# Altium footprint library NG2094.PcbLib: 22 footprints (part 1 of 2)
Each footprint in its own frame and in the unit in brackets; x right, y up, seen from the top. Pads: shape width x height; smd on the part's side, far side on the other; paste and mask are expansions set on the pad; w line width, h text height; cw(c..) or ccw(c..) is an arc to the next point about the centre after c.
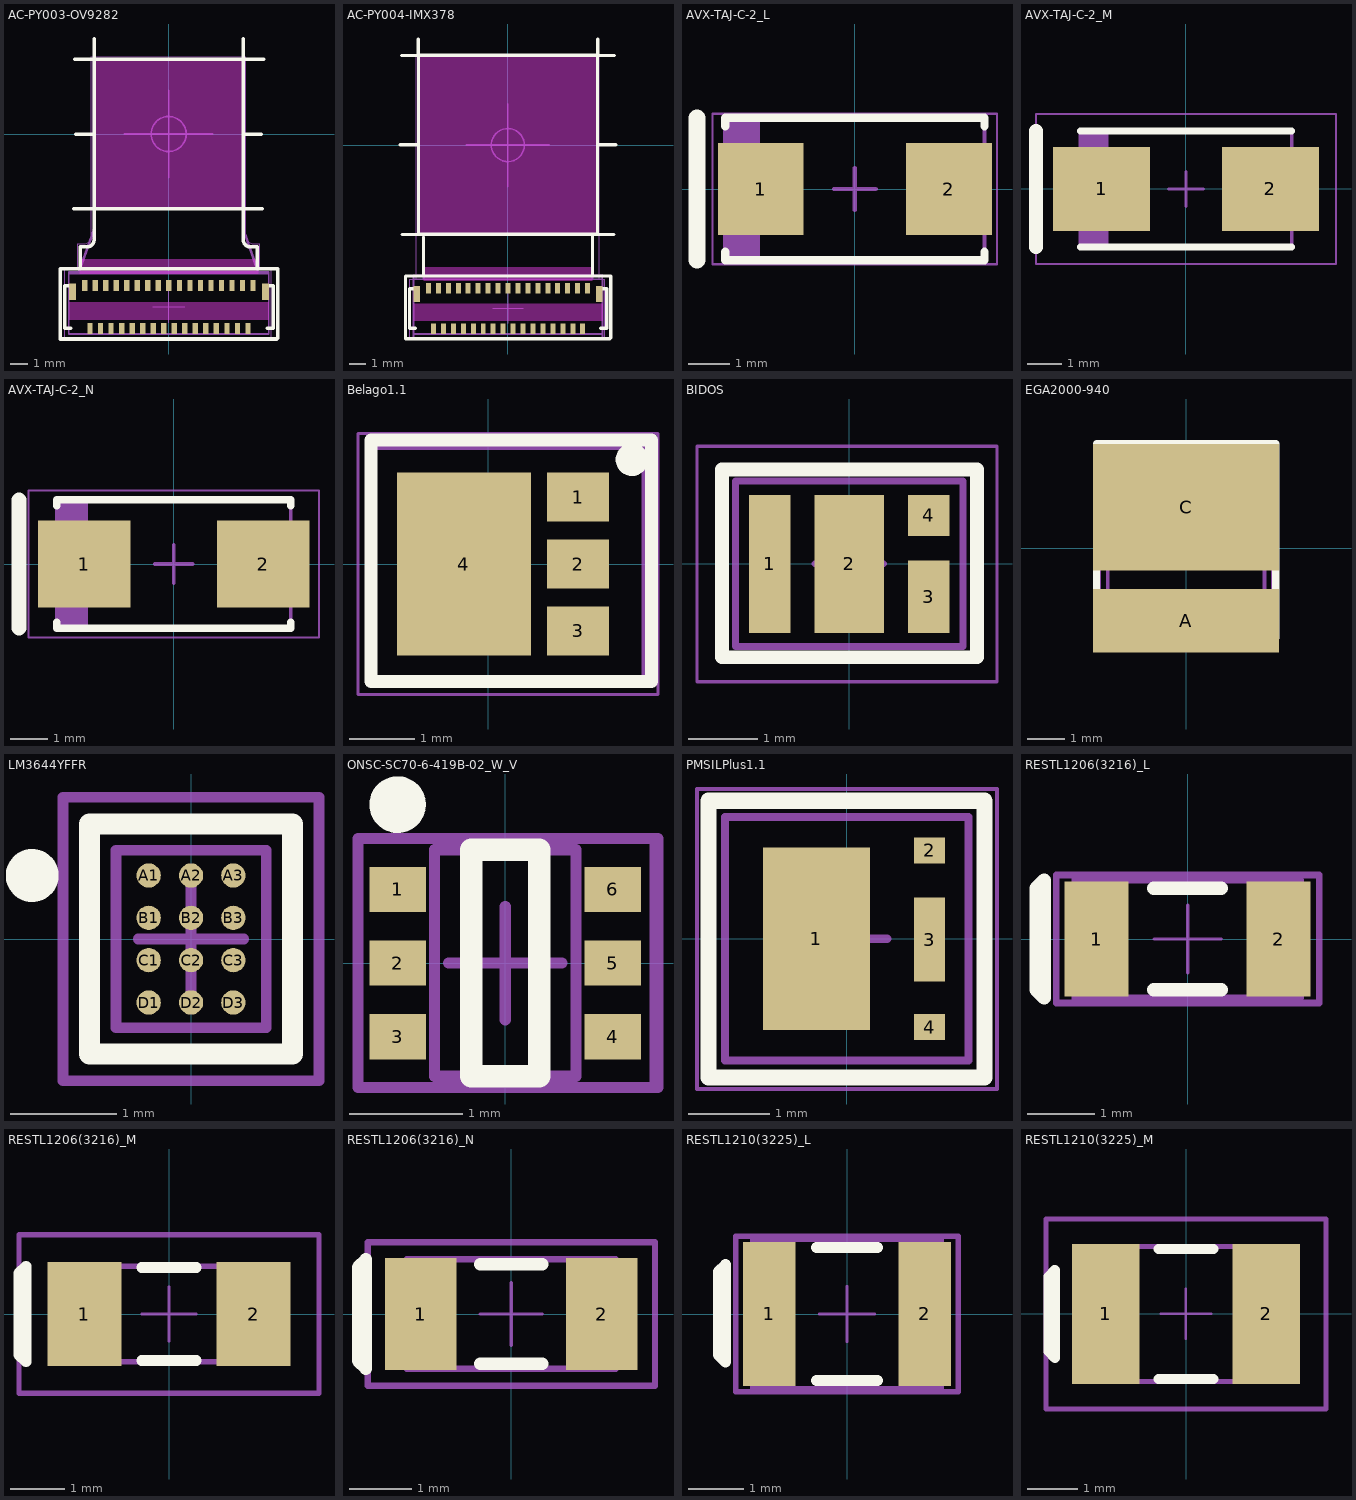
[diagram p0: the footprints below, top view; thin cyan lines are the x and y axes]

## AC-PY003-OV9282 [mm] "connector: FH26W-33S-0.3SHW"
pads (35):
  rect 0.4x0.95 smd mask+0.05: 0(-5.488,-8.984) 0(5.512,-8.984)
  rect 0.3x0.65 smd mask+0.05: 1(4.812,-8.634) 2(4.52,-11.084) 3(4.212,-8.634) 4(3.92,-11.084) 5(3.612,-8.634) 6(3.32,-11.084) 7(3.012,-8.634) 8(2.72,-11.084) 9(2.412,-8.634) 10(2.12,-11.084) 11(1.812,-8.634) 12(1.52,-11.084) 13(1.212,-8.634) 14(0.92,-11.084) 15(0.612,-8.634) 16(0.32,-11.084) 17(0.012,-8.634) 18(-0.28,-11.084) 19(-0.588,-8.634) 20(-0.88,-11.084) 21(-1.188,-8.634) 22(-1.48,-11.084) 23(-1.788,-8.634) 24(-2.08,-11.084) 25(-2.388,-8.634) 26(-2.68,-11.084) 27(-2.988,-8.634) 28(-3.28,-11.084) 29(-3.588,-8.634) 30(-3.88,-11.084) 31(-4.188,-8.634) 32(-4.48,-11.084) 33(-4.788,-8.634)
Top Layer keep-out:
  rectangle: -4.2,-4.2 4.3,4.2
  rectangle: -5.688,-10.602 5.73,-9.573
  rectangle: -5.088,-7.981 5.131,-7.138
Top Overlay:
  lines w0.2: -6.175,-7.684 -6.175,-11.684 6.162,-11.684 6.215,-11.632 6.215,-7.684 -6.148,-7.684 ; -5.575,-11.059 -5.925,-11.059 -5.925,-8.659 -5.575,-8.659 ; -5.412,-4.25 5.348,-4.25 ; -5.348,4.25 5.412,4.25 ; -5.288,0 -4.288,0 ; -5.043,-7.684 -5.043,-6.431 -4.669,-6.431 ccw(c-4.65,-6.031) -4.25,-6.05 -4.25,5.416 ; 4.252,5.416 4.252,-6.05 ccw(c4.652,-6.031) 4.671,-6.431 5.046,-6.431 5.046,-7.684 ; 4.288,0 5.288,0 ; 5.615,-11.059 5.965,-11.059 5.965,-8.659 5.615,-8.659
Top Assembly:
  circle w0.1: c0,0 r1
  lines w0.1: -2.51,0 2.51,0 ; 0,-2.5 0,2.5 ; -5.688,-11.397 5.7,-11.397 5.7,-7.859 2.762,-7.859 -2.738,-7.859 -5.688,-7.859 -5.688,-11.397
  lines w0.15: -5.112,-7.882 -4.25,-5.408 ; -4.248,-5.408 -4.248,-4.246 ; 4.248,-5.41 4.248,-4.248 ; 4.25,-5.41 5.112,-7.884 ; 4.252,4.25 -4.252,4.25 -4.252,-4.248 4.252,-4.248 4.252,4.252
  text "'.Designator'" at 0.012,-9.853 h1
Top Component Outline:
  lines w0.1: -5.112,-7.882 -4.25,-5.408 ; -4.252,-4.248 -4.252,4.25 4.252,4.25 ; -4.248,-5.408 -4.248,-4.246 ; 4.248,-5.41 4.248,-4.248 ; 4.25,-5.41 5.112,-7.884 ; 4.252,-4.248 4.252,4.252 ; -5.688,-11.397 -5.688,-7.947 5.712,-7.947 5.712,-11.397 -5.688,-11.397
Top Courtyard:
  lines w0.05: -5.193,-7.656 -5.193,-6.246 -4.819,-6.246 ccw(c-4.8,-5.847) -4.4,-5.866 -4.4,4.4 4.4,4.4 ; -0.91,0 0,0 ; -0.898,-9.853 0.012,-9.853 ; 0,-0.91 0,0 ; 0,0.91 0,0 ; 0.012,-10.763 0.012,-9.853 ; 0.012,-8.943 0.012,-9.853 ; 0.91,0 0,0 ; 0.922,-9.853 0.012,-9.853 ; 4.407,4.4 4.407,-5.866 ccw(c4.806,-5.847) 4.825,-6.246 5.2,-6.246 5.2,-7.656 ; -5.913,-11.584 5.854,-11.584 5.854,-7.684 -5.913,-7.684 -5.913,-11.584
3D body "arducam-PY003-OV9282_0705.stp": height 4.7, standoff -0.2, extent -5.1,-10.42 5.1,4.25
3D body "FH26-33S-0.step": height 1.01, standoff 0.01, extent -5.688,-11.434 5.712,-7.934
3D body: height 5.6, standoff 5.55, extent -5.1,-0.007 5.1,0.006
3D body: height 5.6, standoff 5.55, extent -0.006,-5.1 0.007,5.1

## AC-PY004-IMX378 [mm] "connector: FH26W-33S-0.3SHW"
pads (35):
  rect 0.4x0.95 smd mask+0.05: 0(-5.488,-8.984) 0(5.512,-8.984)
  rect 0.3x0.65 smd mask+0.05: 1(4.812,-8.634) 2(4.52,-11.084) 3(4.212,-8.634) 4(3.92,-11.084) 5(3.612,-8.634) 6(3.32,-11.084) 7(3.012,-8.634) 8(2.72,-11.084) 9(2.412,-8.634) 10(2.12,-11.084) 11(1.812,-8.634) 12(1.52,-11.084) 13(1.212,-8.634) 14(0.92,-11.084) 15(0.612,-8.634) 16(0.32,-11.084) 17(0.012,-8.634) 18(-0.28,-11.084) 19(-0.588,-8.634) 20(-0.88,-11.084) 21(-1.188,-8.634) 22(-1.48,-11.084) 23(-1.788,-8.634) 24(-2.08,-11.084) 25(-2.388,-8.634) 26(-2.68,-11.084) 27(-2.988,-8.634) 28(-3.28,-11.084) 29(-3.588,-8.634) 30(-3.88,-11.084) 31(-4.188,-8.634) 32(-4.48,-11.084) 33(-4.788,-8.634)
Top Layer keep-out:
  rectangle: -5.1,-8.2 5.119,-7.357
  rectangle: -5.688,-10.602 5.73,-9.573
  rectangle: -5.388,-5.436 5.412,5.4
Top Overlay:
  lines w0.2: -6.496,0.016 -5.496,0.016 ; -6.4,5.4 -5.4,5.4 -5.4,6.4 ; -6.372,-5.397 -5.372,-5.397 ; -5.575,-11.059 -5.925,-11.059 -5.925,-8.659 -5.575,-8.659 ; -5.088,-7.872 -5.088,-5.559 ; 5.112,-7.9 5.112,-5.384 ; 5.397,-5.397 6.397,-5.397 ; 5.424,6.4 5.424,5.4 6.424,5.4 ; 5.52,0.016 6.52,0.016 ; 5.615,-11.059 5.965,-11.059 5.965,-8.659 5.615,-8.659 ; -6.175,-11.684 -6.175,-7.9 6.215,-7.9 6.215,-11.632 6.162,-11.684 -6.175,-11.684 ; -5.388,-5.384 5.412,-5.384 5.412,5.416 -5.388,5.416 -5.388,-5.384
Top Assembly:
  circle w0.1: c0,0 r1
  lines w0.1: -5.387,5.374 -5.387,-5.41 5.397,-5.41 ; -5.347,5.373 5.437,5.373 5.437,-5.411 ; -5.094,-7.868 -5.087,-5.411 ; -2.51,0 2.51,0 ; 0,-2.5 0,2.5 ; 5.113,-7.911 5.113,-5.411 ; -5.688,-11.397 -5.688,-7.859 -2.738,-7.859 2.762,-7.859 5.7,-7.859 5.7,-11.397 -5.688,-11.397
  text "'.Designator'" at 0.012,-9.853 h1
Top Component Outline:
  lines w0.1: -5.388,5.401 -5.388,-5.383 5.397,-5.383 ; -5.348,5.4 5.436,5.4 5.436,-5.384 ; -5.088,-5.384 -5.086,-8.096 ; 5.11,-8.099 5.112,-5.384 ; -5.688,-11.7 5.712,-11.7 5.712,-8.1 -5.688,-8.1 -5.688,-11.7
Top Courtyard:
  lines w0.05: -5.532,-8.083 -5.532,5.4 5.532,5.4 5.532,-8.098 ; -0.91,0 0,0 ; -0.898,-9.853 0.012,-9.853 ; 0,-0.91 0,0 ; 0,0.91 0,0 ; 0.012,-10.763 0.012,-9.853 ; 0.012,-8.943 0.012,-9.853 ; 0.91,0 0,0 ; 0.922,-9.853 0.012,-9.853 ; -5.913,-11.584 -5.913,-8.1 5.854,-8.1 5.854,-11.584 -5.913,-11.584
3D body "20210802_Ard-pcpy004-imx378.stp": height 6.3, standoff 0.05, extent -5.4,-10.427 5.4,5.393
3D body: height 5.6, standoff 5.55, extent -0.006,-5.1 0.007,5.1
3D body: height 5.6, standoff 5.55, extent -5.1,-0.007 5.1,0.006
3D body "FH26-33S-0.step": height 1.01, standoff 0.01, extent -5.688,-11.434 5.712,-7.934

## AVX-TAJ-C-2_L [mm] "Molded Capacitor, 2-Leads, Body 6.2x3.4mm, IPC High Density"
height 2.8
pads (2):
  rect 2.05x2.2 smd: 1(-2.25,0) 2(2.25,0)
Top Overlay:
  lines w0.2: -3.1,-1.5 -3.1,-1.7 3.1,-1.7 3.1,-1.5 ; -3.1,1.5 -3.1,1.7 3.1,1.7 3.1,1.5
  lines w0.4: -3.775,-1.7 -3.775,1.7
Top Assembly:
  rectangle: -3.1,-1.7 -2.266,1.7
  lines w0.1: -3.1,-1.7 3.1,-1.7 3.1,1.7 -3.1,1.7 -3.1,-1.7
  text ".Designator" at 0,-0.001 h1
Top Component Outline:
  lines w0.1: -3.1,-1.7 3.1,-1.7 3.1,1.7 -3.1,1.7 -3.1,-1.7
Top Courtyard:
  lines w0.05: -3.4,-1.8 -3.4,1.8 3.4,1.8 3.4,-1.8 -3.4,-1.8
  lines w0.1: -0.5,0 0.5,0 ; 0,-0.5 0,0.5
3D body "CAPMP6032X28L.step": height 2.8, standoff 0, extent -3.32,-1.7 3.32,1.7

## AVX-TAJ-C-2_M [mm] "Molded Capacitor, 2-Leads, Body 6.2x3.4mm, IPC Low Density"
height 2.8
pads (2):
  rect 2.85x2.45 smd: 1(-2.475,0) 2(2.475,0)
Top Overlay:
  lines w0.2: -3.1,-1.7 3.1,-1.7 ; -3.1,1.7 3.1,1.7
  lines w0.4: -4.4,-1.7 -4.4,1.7
Top Assembly:
  rectangle: -3.1,-1.7 -2.266,1.7
  lines w0.1: -3.1,-1.7 3.1,-1.7 3.1,1.7 -3.1,1.7 -3.1,-1.7
  text ".Designator" at 0,-0.001 h1
Top Component Outline:
  lines w0.1: -3.1,-1.7 3.1,-1.7 3.1,1.7 -3.1,1.7 -3.1,-1.7
Top Courtyard:
  lines w0.05: -4.4,-2.2 -4.4,2.2 4.4,2.2 4.4,-2.2 -4.4,-2.2
  lines w0.1: -0.5,0 0.5,0 ; 0,-0.5 0,0.5
3D body "CAPMP6032X28M.step": height 2.8, standoff 0, extent -3.32,-1.7 3.32,1.7

## AVX-TAJ-C-2_N [mm] "Molded Capacitor, 2-Leads, Body 6.2x3.4mm, IPC Medium Density"
height 2.8
pads (2):
  rect 2.45x2.3 smd: 1(-2.375,0) 2(2.375,0)
Top Overlay:
  lines w0.2: -3.1,-1.55 -3.1,-1.7 3.1,-1.7 3.1,-1.55 ; -3.1,1.55 -3.1,1.7 3.1,1.7 3.1,1.55
  lines w0.4: -4.1,-1.7 -4.1,1.7
Top Assembly:
  rectangle: -3.1,-1.7 -2.266,1.7
  lines w0.1: -3.1,-1.7 -3.1,1.7 3.1,1.7 3.1,-1.7 -3.1,-1.7
  text ".Designator" at 0,-0.001 h1
Top Component Outline:
  lines w0.1: -3.1,-1.7 3.1,-1.7 3.1,1.7 -3.1,1.7 -3.1,-1.7
Top Courtyard:
  lines w0.05: -3.85,-1.95 -3.85,1.95 3.85,1.95 3.85,-1.95 -3.85,-1.95
  lines w0.1: -0.5,0 0.5,0 ; 0,-0.5 0,0.5
3D body "CAPMP6032X28N.step": height 2.8, standoff 0, extent -3.32,-1.7 3.32,1.7

## Belago1.1 [mm] "SOT23, 6-Leads, Body 2x1.25mm, Pitch 0.65mm"
height 1.1
pads (4):
  rect 0.95x0.75 smd: 1(1.375,1.025) 2(1.375,0) 3(1.375,-1.025)
  rect 2.05x2.8 smd: 4(-0.375,0)
Top Overlay:
  circle w0.25: c2.2,1.6 r0.125
  lines w0.2: -1.8,-1.8 2.5,-1.8 2.5,1.9 -1.8,1.9 -1.8,-1.8
Top Assembly:
  lines w0.1: -1.8,-1.8 -1.8,1.8 2.4,1.8 2.4,-1.8 -1.8,-1.8
  text "'.Designator'" at 0,0.187 h1
Top Component Outline:
  lines w0.1: -1.8,-1.8 -1.8,1.8 2.4,1.8 2.4,-1.8 -1.8,-1.8
Top Courtyard:
  lines w0.05: -2,-2 -2,2 2.6,2 2.6,-2 -2,-2
  lines w0.1: -0.5,0 0.5,0 ; 0,-0.5 0,0.5
3D body "Belago1.1 v3.step": height 3.3, standoff 0.05, extent -1.8,-1.8 2.4,1.8

## BIDOS [mm] "SV105Q131A-940"
height 1.1
pads (4):
  rect 0.6x2 smd paste-0.1: 1(-1.15,0)
  rect 1x2 smd paste-0.1: 2(0,0)
  rect 0.6x1.05 smd paste-0.1: 3(1.15,-0.475)
  rect 0.6x0.6 smd paste-0.1: 4(1.15,0.7)
Top Overlay:
  lines w0.2: -1.845,-1.355 1.852,-1.355 1.852,1.368 -1.845,1.368 -1.845,-1.355
Top Assembly:
  lines w0.1: -1.845,-1.355 -1.845,1.368 1.852,1.368 1.852,-1.355 -1.845,-1.355
  text "'.Designator'" at 0,0.187 h1
Top Component Outline:
  lines w0.1: -1.65,-1.2 -1.65,1.199 1.65,1.2 1.65,-1.199 -1.65,-1.2
Top Courtyard:
  lines w0.05: -2.206,-1.71 -2.206,1.704 2.14,1.704 2.14,-1.71 -2.206,-1.71
  lines w0.1: -0.5,0 0.5,0 ; 0,-0.5 0,0.5
3D body "Bidos v1.step": height 8.97, standoff 0.1, extent -6.232,-4.543 6.232,4.543
3D body "V105C131A_940_20200702_geometry.STEP": height 1.5, standoff 0, extent -1.75,-1.4 1.75,1.4

## EGA2000-940 [mm] "ams Industrial High-Power Flood Illuminator 4.1 mm x 4.1 mm x 1.38 mm ±0.100 mm"
pads (2):
  rect 5x1.7 smd paste-5 mask-5: A(0,-1.946)
  rect 5x3.4 smd paste-5 mask-5: C(0,1.104)
Top Layer:
  rectangle: -0.25,2.204 0.25,2.704
  rectangle: -0.25,-2.496 0.25,-1.996
Top Overlay:
  lines w0.2: -2.402,-2.402 -2.402,2.804 2.405,2.804 2.405,-2.402 -2.402,-2.402
  lines w0.25: -2.3,2.501 2.299,2.501
Top Paste:
  region: 2.1,0.554 0.2,0.554 0.2,-0.596 2.1,-0.596
  rectangle: -2.1,-0.596 -0.2,0.554
  region: 2.1,2.104 0.2,2.104 0.2,0.954 2.1,0.954
  rectangle: -2.1,0.954 -0.2,2.104
  region: 2.1,-1.096 0.2,-1.096 0.2,-2.096 2.1,-2.096
  rectangle: -2.1,-2.096 -0.2,-1.096
Top Solder:
  rectangle: -2.2,-0.696 2.2,2.204
  rectangle: -2.2,-2.196 2.2,-0.996
  rectangle: -0.25,-2.596 0.25,-2.046
  rectangle: -0.25,2.054 0.25,2.604
Top Assembly:
  lines w0.1: -2.1,-2.1 2.1,-2.1 2.1,2.1 -2.1,2.1 -2.1,-2.1
  text "'.Designator'" at 0,0.187 h1
Top Component Outline:
  lines w0.1: -2.1,2.1 -2.1,-2.1 2.1,-2.1 ; -2.095,2.101 2.105,2.101 ; 2.105,-2.102 2.105,2.098
Top Courtyard:
  lines w0.05: -2.3,-2.3 -2.3,2.3 2.3,2.3 2.3,-2.3 -2.3,-2.3
  lines w0.1: -0.5,0 0.5,0 ; 0,-0.5 0,0.5
3D body: height 1.38, standoff 0, extent -2.095,-2.096 2.105,2.101

## LM3644YFFR [mm] "DSBGA 12 (pitch 0.4mm)"
height 0.68
pads (12):
  round 0.23 smd paste-1000 mask-1000: A1(-0.4,0.6) A2(0,0.6) A3(0.4,0.6) B1(-0.4,0.2) B2(0,0.2) B3(0.4,0.2) C1(-0.4,-0.2) C2(0,-0.2) C3(0.4,-0.2) D1(-0.4,-0.6) D2(0,-0.6) D3(0.4,-0.6)
Top Overlay:
  circle w0.25: c-1.5,0.6 r0.125
  lines w0.2: -0.959,-1.088 0.959,-1.088 0.959,1.088 -0.959,1.088 -0.959,-1.088
Top Paste:
  drawing of 12 lines, arcs and shapes, not listed
Top Solder:
  circle w0.165: c-0.4,0.6 r0.082
  circle w0.165: c-0.4,0.2 r0.082
  circle w0.165: c-0.4,-0.2 r0.082
  circle w0.165: c-0.4,-0.6 r0.082
  circle w0.165: c0.4,0.6 r0.082
  circle w0.165: c0.4,0.2 r0.082
  circle w0.165: c0.4,-0.2 r0.082
  circle w0.165: c0.4,-0.6 r0.082
  circle w0.165: c0,0.6 r0.082
  circle w0.165: c0,0.2 r0.082
  circle w0.165: c0,-0.2 r0.082
  circle w0.165: c0,-0.6 r0.082
Top Assembly:
  lines w0.1: -1.209,-1.338 1.209,-1.338 1.209,1.338 -1.209,1.338 -1.209,-1.338
  text ".Designator" at 0,-0.001 h1
Top Component Outline:
  lines w0.1: -0.709,-0.837 -0.709,0.837 0.709,0.837 0.709,-0.837 -0.709,-0.837
Top Courtyard:
  lines w0.05: -1.209,-1.338 1.209,-1.338 1.209,1.338 -1.209,1.338 -1.209,-1.338
  lines w0.1: -0.5,0 0.5,0 ; 0,-0.5 0,0.5
3D body "IC_Texas_Instruments_TPS63050YFFR_eec.STEP": height 0.25, standoff 0, extent -1.209,-1.338 1.209,1.338

## ONSC-SC70-6-419B-02_W_V [mm] "SOT23, 6-Leads, Body 2x1.25mm, Pitch 0.65mm"
height 1.1
pads (6):
  rect 0.5x0.4 smd: 1(-0.95,0.65) 2(-0.95,0) 3(-0.95,-0.65) 4(0.95,-0.65) 5(0.95,0) 6(0.95,0.65)
Top Overlay:
  circle w0.25: c-0.95,1.4 r0.125
  lines w0.2: -0.3,-1 -0.3,1 0.3,1 0.3,-1 -0.3,-1
Top Assembly:
  lines w0.1: -1.3,-1.1 1.35,-1.1 1.35,1.1 -1.3,1.1 -1.3,-1.1
  text "'.Designator'" at 0,0.187 h1
Top Component Outline:
  lines w0.1: -0.625,-1 -0.625,1 0.625,1 0.625,-1 -0.625,-1
Top Courtyard:
  lines w0.05: -1.3,-1.1 1.3,-1.1 1.3,1.1 -1.3,1.1 -1.3,-1.1
  lines w0.1: -0.5,0 0.5,0 ; 0,-0.5 0,0.5
3D body "User Library-SC70-6.step": height 1.08, standoff 0.13, extent -1.05,-1 1.05,1

## PMSILPlus1.1 [mm] "SOT23, 6-Leads, Body 2x1.25mm, Pitch 0.65mm"
height 1.1
pads (4):
  rect 1.32x2.25 smd: 1(-0.375,0)
  rect 0.38x0.32 smd: 2(1.023,1.09) 4(1.023,-1.09)
  rect 0.38x1.04 smd: 3(1.023,-0.01)
Top Overlay:
  lines w0.2: -1.705,-1.71 1.701,-1.71 1.701,1.704 -1.705,1.704 -1.705,-1.71
Top Assembly:
  lines w0.1: -1.705,-1.71 -1.705,1.704 1.701,1.704 1.701,-1.71 -1.705,-1.71
  text "'.Designator'" at 0,0.187 h1
Top Component Outline:
  lines w0.1: -1.5,-1.5 1.5,-1.5 1.5,1.5 -1.5,1.5 -1.5,-1.5
Top Courtyard:
  lines w0.05: -1.845,-1.853 -1.845,1.848 1.852,1.848 1.852,-1.853 -1.845,-1.853
  lines w0.1: -0.5,0 0.5,0 ; 0,-0.5 0,0.5
3D body "PMSILPlus1.1.step": height 8.5, standoff 0, extent -6.234,-4.544 6.234,4.544

## RESTL1206(3216)_L [mm] "Chip Resistor, Body 3.2x1.6mm, IPC High Density"
height 0.75
pads (2):
  rect 0.95x1.7 smd: 1(-1.35,0) 2(1.35,0)
Top Overlay:
  lines w0.2: -0.5,-0.75 0.5,-0.75 ; -0.5,0.75 0.5,0.75 ; -2.125,-0.875 -2.125,0.875 -2.25,0.75 -2.25,-0.75 -2.125,-0.875 ; -2.125,-0.875 -2.125,-0.875
Top Assembly:
  lines w0.1: -1.95,-0.95 -1.95,0.95 1.95,0.95 1.95,-0.95 -1.95,-0.95
  text "'.Designator'" at 0,0 h1
Top Component Outline:
  lines w0.1: -1.675,-0.875 1.675,-0.875 1.675,0.875 -1.675,0.875 -1.675,-0.875
Top Courtyard:
  lines w0.05: -0.5,0 0.5,0 ; 0,-0.5 0,0.5 ; -1.95,-0.95 1.95,-0.95 1.95,0.95 -1.95,0.95 -1.95,-0.95
3D body: height 0.75, standoff 0, extent -1.674,-0.874 -1.18,0.875
3D body: height 0.75, standoff 0, extent 1.181,-0.874 1.675,0.875
3D body "TLJA107M006R0500.STEP": height 1.8, standoff 0, extent -1.6,-0.8 1.6,0.8

## RESTL1206(3216)_M [mm] "Chip Resistor, Body 3.2x1.6mm, IPC Low Density"
height 0.75
pads (2):
  rect 1.35x1.9 smd: 1(-1.55,0) 2(1.55,0)
Top Overlay:
  lines w0.2: -0.5,-0.85 0.5,-0.85 ; -0.5,0.85 0.5,0.85 ; -2.625,-0.875 -2.625,0.875 -2.75,0.75 -2.75,-0.75 -2.625,-0.875 ; -2.625,-0.875 -2.625,-0.875
Top Assembly:
  lines w0.1: -2.75,-1.45 2.75,-1.45 2.75,1.45 -2.75,1.45 -2.75,-1.45
  text "'.Designator'" at 0,0 h1
Top Component Outline:
  lines w0.1: -1.675,-0.875 -1.675,0.875 1.675,0.875 1.675,-0.875 -1.675,-0.875
Top Courtyard:
  lines w0.05: -0.5,0 0.5,0 ; 0,-0.5 0,0.5 ; -2.75,-1.45 2.75,-1.45 2.75,1.45 -2.75,1.45 -2.75,-1.45
3D body "TLJA107M006R0500.STEP": height 1.8, standoff 0, extent -1.6,-0.8 1.6,0.8
3D body: height 0.75, standoff 0, extent 1.181,-0.874 1.675,0.875
3D body: height 0.75, standoff 0, extent -1.674,-0.874 -1.18,0.875

## RESTL1206(3216)_N [mm] "Chip Resistor, Body 3.2x1.6mm, IPC Medium Density"
height 0.75
pads (2):
  rect 1.15x1.8 smd: 1(-1.45,0) 2(1.45,0)
Top Overlay:
  lines w0.2: -0.5,-0.8 0.5,-0.8 ; -0.5,0.8 0.5,0.8 ; -2.329,-0.875 -2.329,0.875 -2.454,0.75 -2.454,-0.75 -2.329,-0.875 ; -2.329,-0.875 -2.329,-0.875
Top Assembly:
  lines w0.1: -2.3,-1.15 -2.3,1.15 2.3,1.15 2.3,-1.15 -2.3,-1.15
  text "'.Designator'" at 0,0 h1
Top Component Outline:
  lines w0.1: -1.675,-0.875 1.675,-0.875 1.675,0.875 -1.675,0.875 -1.675,-0.875
Top Courtyard:
  lines w0.05: -0.5,0 0.5,0 ; 0,-0.5 0,0.5 ; -2.301,-1.15 2.299,-1.15 2.299,1.15 -2.301,1.15 -2.301,-1.15
3D body "TLJA107M006R0500.STEP": height 1.8, standoff 0, extent -1.6,-0.8 1.6,0.8
3D body: height 0.75, standoff 0, extent -1.674,-0.874 -1.18,0.875
3D body: height 0.75, standoff 0, extent 1.181,-0.874 1.675,0.875

## RESTL1210(3225)_L [mm] "Chip Resistor, Body 3.2x2.5mm, IPC High Density"
height 0.71
pads (2):
  rect 0.95x2.6 smd: 1(-1.4,0) 2(1.4,0)
Top Overlay:
  lines w0.2: -0.55,-1.2 0.55,-1.2 ; -0.55,1.2 0.55,1.2 ; -2.186,-0.864 -2.186,0.886 -2.311,0.761 -2.311,-0.739 -2.186,-0.864 ; -2.186,-0.864 -2.186,-0.864
Top Assembly:
  lines w0.1: -2,-1.4 2,-1.4 2,1.4 -2,1.4 -2,-1.4
  text "'.Designator'" at 0,0 h1
Top Component Outline:
  lines w0.1: -1.7,-1.35 -1.7,1.35 1.7,1.35 1.7,-1.35 -1.7,-1.35
Top Courtyard:
  lines w0.05: -0.5,0 0.5,0 ; 0,-0.5 0,0.5 ; -2,-1.4 2,-1.4 2,1.4 -2,1.4 -2,-1.4
3D body: height 0.71, standoff 0, extent 1.179,-1.351 1.698,1.349
3D body: height 0.71, standoff 0, extent -1.698,-1.349 -1.178,1.351
3D body: height 0.71, standoff 0, extent -1.182,-1.35 1.182,1.35

## RESTL1210(3225)_M [mm] "Chip Resistor, Body 3.2x2.5mm, IPC Low Density"
height 0.71
pads (2):
  rect 1.35x2.8 smd: 1(-1.6,0) 2(1.6,0)
Top Overlay:
  lines w0.2: -0.55,-1.3 0.55,-1.3 ; -0.55,1.3 0.55,1.3 ; -2.625,-0.875 -2.625,0.875 -2.75,0.75 -2.75,-0.75 -2.625,-0.875 ; -2.625,-0.875 -2.625,-0.875
Top Assembly:
  lines w0.1: -2.8,-1.9 2.8,-1.9 2.8,1.9 -2.8,1.9 -2.8,-1.9
  text "'.Designator'" at 0,0 h1
Top Component Outline:
  lines w0.1: -1.7,-1.35 -1.7,1.35 1.7,1.35 1.7,-1.35 -1.7,-1.35
Top Courtyard:
  lines w0.05: -0.5,0 0.5,0 ; 0,-0.5 0,0.5 ; -2.8,-1.9 -2.8,1.9 2.8,1.9 2.8,-1.9 -2.8,-1.9
3D body: height 0.71, standoff 0, extent -1.184,-1.351 1.18,1.349
3D body: height 0.71, standoff 0, extent -1.7,-1.35 -1.18,1.35
3D body: height 0.71, standoff 0, extent 1.177,-1.351 1.697,1.349